# EAGLE library part ARK8_35MM (library my_library)
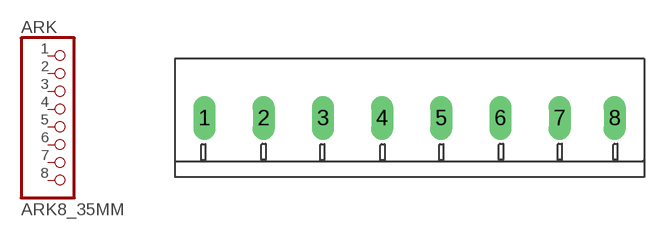
[diagram p2: symbol with the pads of ARK_350MM_8; footprint ARK_350MM_8]

Designator prefix ARK

## ARK8_35MM  [ARK_350MM_8]
1  1  pas
2  2  pas
3  3  pas
4  4  pas
5  5  pas
6  6  pas
7  7  pas
8  8  pas

## Footprint ARK_350MM_8 (pad centres in mm)
drill 0.8 long: 1 -12.25,0; 2 -8.75,0; 3 -5.25,0; 4 -1.75,0; 5 1.75,0; 6 5.25,0; 7 8.75,0; 8 12,0